# Altium schematic symbol library WE-KI HC.SchLib: 94 symbols (part 1 of 2)
Pins are listed as number, name and electrical type; pins without a type are passive.

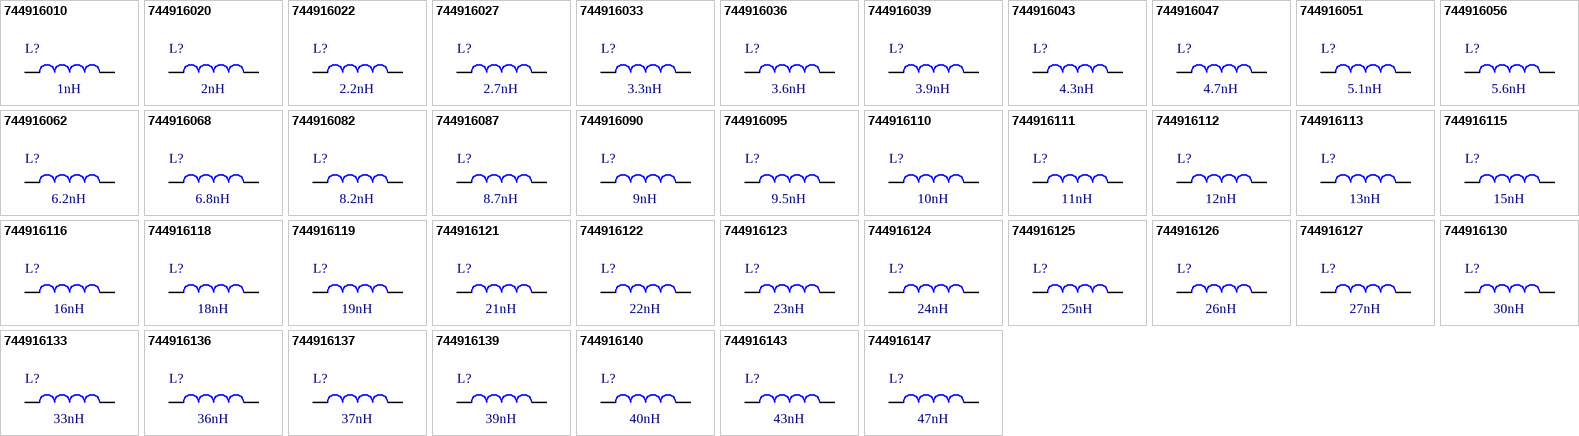
[diagram p0: symbols 744916010 to 744916147]

## 744916010
designator L?, comment 1nH
WE-KI HC SMT High Current Wire Wound Ceramic Inductor, size 0402, 1nH, 2.3A, 0.03Ω; Manufacturer Part Number: 744916010; Manufacturer: Wurth Elektronik; Case/Size Code: 0402; Inductance Tolerance: +/-0.2nH; Q Factor: 20; Self Resonant Frequency: 16000MHz; Category: RF Inductors; Match Code: WE-KI HC; ComponentLink1Description: Website Link; ComponentLink1URL: https://www.we-online.com/redexpert/article/744916010?ad; ComponentLink2Description: Datasheet Link; ComponentLink2URL: https://www.we-online.com/redexpert/spec/744916010?ad; Mount: Surface Mount; Min Operating Temperature: -40°C; Max Operating Temperature: 125°C; Packaging: Tape and Reel; Length: 1.1mm; Width: 0.6mm; Height: 0.6mm; DC Resistance Max: 0.03Ω; Inductance: 1nH; Rated Current: 2.3A
footprint WE-KI HC_0402
simulation model 0402_744916010_1n
pins: 1, 2

## 744916020
designator L?, comment 2nH
WE-KI HC SMT High Current Wire Wound Ceramic Inductor, size 0402, 2nH, 2.1A, 0.038Ω; Manufacturer Part Number: 744916020; Manufacturer: Wurth Elektronik; Case/Size Code: 0402; Inductance Tolerance: +/-0.2nH; Q Factor: 24; Self Resonant Frequency: 15200MHz; Category: RF Inductors; Match Code: WE-KI HC; ComponentLink1Description: Website Link; ComponentLink1URL: https://www.we-online.com/redexpert/article/744916020?ad; ComponentLink2Description: Datasheet Link; ComponentLink2URL: https://www.we-online.com/redexpert/spec/744916020?ad; Mount: Surface Mount; Min Operating Temperature: -40°C; Max Operating Temperature: 125°C; Packaging: Tape and Reel; Length: 1.1mm; Width: 0.6mm; Height: 0.6mm; DC Resistance Max: 0.038Ω; Inductance: 2nH; Rated Current: 2.1A
footprint WE-KI HC_0402
simulation model 0402_744916020_2n
pins: 1, 2

## 744916022
designator L?, comment 2.2nH
WE-KI HC SMT High Current Wire Wound Ceramic Inductor, size 0402, 2.2nH, 2.1A, 0.038Ω; Manufacturer Part Number: 744916022; Manufacturer: Wurth Elektronik; Case/Size Code: 0402; Inductance Tolerance: +/-0.2nH; Q Factor: 25; Self Resonant Frequency: 15100MHz; Category: RF Inductors; Match Code: WE-KI HC; ComponentLink1Description: Website Link; ComponentLink1URL: https://www.we-online.com/redexpert/article/744916022?ad; ComponentLink2Description: Datasheet Link; ComponentLink2URL: https://www.we-online.com/redexpert/spec/744916022?ad; Mount: Surface Mount; Min Operating Temperature: -40°C; Max Operating Temperature: 125°C; Packaging: Tape and Reel; Length: 1.1mm; Width: 0.6mm; Height: 0.6mm; DC Resistance Max: 0.038Ω; Inductance: 2.2nH; Rated Current: 2.1A
footprint WE-KI HC_0402
simulation model 0402_744916022_2.2n
pins: 1, 2

## 744916027
designator L?, comment 2.7nH
WE-KI HC SMT High Current Wire Wound Ceramic Inductor, size 0402, 2.7nH, 1.5A, 0.56Ω; Manufacturer Part Number: 744916027; Manufacturer: Wurth Elektronik; Case/Size Code: 0402; Inductance Tolerance: +/-0.2nH; Q Factor: 24; Self Resonant Frequency: 13000MHz; Category: RF Inductors; Match Code: WE-KI HC; ComponentLink1Description: Website Link; ComponentLink1URL: https://www.we-online.com/redexpert/article/744916027?ad; ComponentLink2Description: Datasheet Link; ComponentLink2URL: https://www.we-online.com/redexpert/spec/744916027?ad; Mount: Surface Mount; Min Operating Temperature: -40°C; Max Operating Temperature: 125°C; Packaging: Tape and Reel; Length: 1.1mm; Width: 0.6mm; Height: 0.6mm; DC Resistance Max: 0.56Ω; Inductance: 2.7nH; Rated Current: 1.5A
footprint WE-KI HC_0402
simulation model 0402_744916027_2.7n
pins: 1, 2

## 744916033
designator L?, comment 3.3nH
WE-KI HC SMT High Current Wire Wound Ceramic Inductor, size 0402, 3.3nH, 1.7A, 0.045Ω; Manufacturer Part Number: 744916033; Manufacturer: Wurth Elektronik; Case/Size Code: 0402; Inductance Tolerance: +/-0.2nH; Q Factor: 28; Self Resonant Frequency: 12800MHz; Category: RF Inductors; Match Code: WE-KI HC; ComponentLink1Description: Website Link; ComponentLink1URL: https://www.we-online.com/redexpert/article/744916033?ad; ComponentLink2Description: Datasheet Link; ComponentLink2URL: https://www.we-online.com/redexpert/spec/744916033?ad; Mount: Surface Mount; Min Operating Temperature: -40°C; Max Operating Temperature: 125°C; Packaging: Tape and Reel; Length: 1.1mm; Width: 0.6mm; Height: 0.6mm; DC Resistance Max: 0.045Ω; Inductance: 3.3nH; Rated Current: 1.7A
footprint WE-KI HC_0402
simulation model 0402_744916033_3.3n
pins: 1, 2

## 744916036
designator L?, comment 3.6nH
WE-KI HC SMT High Current Wire Wound Ceramic Inductor, size 0402, 3.6nH, 1.7A, 0.045Ω; Manufacturer Part Number: 744916036; Manufacturer: Wurth Elektronik; Case/Size Code: 0402; Inductance Tolerance: +/-0.2nH; Q Factor: 28; Self Resonant Frequency: 11700MHz; Category: RF Inductors; Match Code: WE-KI HC; ComponentLink1Description: Website Link; ComponentLink1URL: https://www.we-online.com/redexpert/article/744916036?ad; ComponentLink2Description: Datasheet Link; ComponentLink2URL: https://www.we-online.com/redexpert/spec/744916036?ad; Mount: Surface Mount; Min Operating Temperature: -40°C; Max Operating Temperature: 125°C; Packaging: Tape and Reel; Length: 1.1mm; Width: 0.6mm; Height: 0.6mm; DC Resistance Max: 0.045Ω; Inductance: 3.6nH; Rated Current: 1.7A
footprint WE-KI HC_0402
simulation model 0402_744916036_3.6n
pins: 1, 2

## 744916039
designator L?, comment 3.9nH
WE-KI HC SMT High Current Wire Wound Ceramic Inductor, size 0402, 3.9nH, 1.7A, 0.045Ω; Manufacturer Part Number: 744916039; Manufacturer: Wurth Elektronik; Case/Size Code: 0402; Inductance Tolerance: +/-0.2nH; Q Factor: 28; Self Resonant Frequency: 9500MHz; Category: RF Inductors; Match Code: WE-KI HC; ComponentLink1Description: Website Link; ComponentLink1URL: https://www.we-online.com/redexpert/article/744916039?ad; ComponentLink2Description: Datasheet Link; ComponentLink2URL: https://www.we-online.com/redexpert/spec/744916039?ad; Mount: Surface Mount; Min Operating Temperature: -40°C; Max Operating Temperature: 125°C; Packaging: Tape and Reel; Length: 1.1mm; Width: 0.6mm; Height: 0.6mm; DC Resistance Max: 0.045Ω; Inductance: 3.9nH; Rated Current: 1.7A
footprint WE-KI HC_0402
simulation model 0402_744916039_3.9n
pins: 1, 2

## 744916043
designator L?, comment 4.3nH
WE-KI HC SMT High Current Wire Wound Ceramic Inductor, size 0402, 4.3nH, 1.6A, 0.04Ω; Manufacturer Part Number: 744916043; Manufacturer: Wurth Elektronik; Case/Size Code: 0402; Inductance Tolerance: +/-0.2nH; Q Factor: 27; Self Resonant Frequency: 7150MHz; Category: RF Inductors; Match Code: WE-KI HC; ComponentLink1Description: Website Link; ComponentLink1URL: https://www.we-online.com/redexpert/article/744916043?ad; ComponentLink2Description: Datasheet Link; ComponentLink2URL: https://www.we-online.com/redexpert/spec/744916043?ad; Mount: Surface Mount; Min Operating Temperature: -40°C; Max Operating Temperature: 125°C; Packaging: Tape and Reel; Length: 1.1mm; Width: 0.6mm; Height: 0.6mm; DC Resistance Max: 0.04Ω; Inductance: 4.3nH; Rated Current: 1.6A
footprint WE-KI HC_0402
simulation model 0402_744916043_4.3n
pins: 1, 2

## 744916047
designator L?, comment 4.7nH
WE-KI HC SMT High Current Wire Wound Ceramic Inductor, size 0402, 4.7nH, 1.5A, 0.06Ω; Manufacturer Part Number: 744916047; Manufacturer: Wurth Elektronik; Case/Size Code: 0402; Inductance Tolerance: +/-0.2nH; Q Factor: 23; Self Resonant Frequency: 6850MHz; Category: RF Inductors; Match Code: WE-KI HC; ComponentLink1Description: Website Link; ComponentLink1URL: https://www.we-online.com/redexpert/article/744916047?ad; ComponentLink2Description: Datasheet Link; ComponentLink2URL: https://www.we-online.com/redexpert/spec/744916047?ad; Mount: Surface Mount; Min Operating Temperature: -40°C; Max Operating Temperature: 125°C; Packaging: Tape and Reel; Length: 1.1mm; Width: 0.6mm; Height: 0.6mm; DC Resistance Max: 0.06Ω; Inductance: 4.7nH; Rated Current: 1.5A
footprint WE-KI HC_0402
simulation model 0402_744916047_4.7n
pins: 1, 2

## 744916051
designator L?, comment 5.1nH
WE-KI HC SMT High Current Wire Wound Ceramic Inductor, size 0402, 5.1nH, 1.2A, 0.1Ω; Manufacturer Part Number: 744916051; Manufacturer: Wurth Elektronik; Case/Size Code: 0402; Inductance Tolerance: +/-0.2nH; Q Factor: 20; Self Resonant Frequency: 6800MHz; Category: RF Inductors; Match Code: WE-KI HC; ComponentLink1Description: Website Link; ComponentLink1URL: https://www.we-online.com/redexpert/article/744916051?ad; ComponentLink2Description: Datasheet Link; ComponentLink2URL: https://www.we-online.com/redexpert/spec/744916051?ad; Mount: Surface Mount; Min Operating Temperature: -40°C; Max Operating Temperature: 125°C; Packaging: Tape and Reel; Length: 1.1mm; Width: 0.6mm; Height: 0.6mm; DC Resistance Max: 0.1Ω; Inductance: 5.1nH; Rated Current: 1.2A
footprint WE-KI HC_0402
simulation model 0402_744916051_5.1n
pins: 1, 2

## 744916056
designator L?, comment 5.6nH
WE-KI HC SMT High Current Wire Wound Ceramic Inductor, size 0402, 5.6nH, 1.6A, 0.048Ω; Manufacturer Part Number: 744916056; Manufacturer: Wurth Elektronik; Case/Size Code: 0402; Inductance Tolerance: +/-0.2nH; Q Factor: 29; Self Resonant Frequency: 6500MHz; Category: RF Inductors; Match Code: WE-KI HC; ComponentLink1Description: Website Link; ComponentLink1URL: https://www.we-online.com/redexpert/article/744916056?ad; ComponentLink2Description: Datasheet Link; ComponentLink2URL: https://www.we-online.com/redexpert/spec/744916056?ad; Mount: Surface Mount; Min Operating Temperature: -40°C; Max Operating Temperature: 125°C; Packaging: Tape and Reel; Length: 1.1mm; Width: 0.6mm; Height: 0.6mm; DC Resistance Max: 0.048Ω; Inductance: 5.6nH; Rated Current: 1.6A
footprint WE-KI HC_0402
simulation model 0402_744916056_5.6n
pins: 1, 2

## 744916062
designator L?, comment 6.2nH
WE-KI HC SMT High Current Wire Wound Ceramic Inductor, size 0402, 6.2nH, 1.6A, 0.05Ω; Manufacturer Part Number: 744916062; Manufacturer: Wurth Elektronik; Case/Size Code: 0402; Inductance Tolerance: +/-0.2nH; Q Factor: 29; Self Resonant Frequency: 5800MHz; Category: RF Inductors; Match Code: WE-KI HC; ComponentLink1Description: Website Link; ComponentLink1URL: https://www.we-online.com/redexpert/article/744916062?ad; ComponentLink2Description: Datasheet Link; ComponentLink2URL: https://www.we-online.com/redexpert/spec/744916062?ad; Mount: Surface Mount; Min Operating Temperature: -40°C; Max Operating Temperature: 125°C; Packaging: Tape and Reel; Length: 1.1mm; Width: 0.6mm; Height: 0.6mm; DC Resistance Max: 0.05Ω; Inductance: 6.2nH; Rated Current: 1.6A
footprint WE-KI HC_0402
simulation model 0402_744916062_6.2n
pins: 1, 2

## 744916068
designator L?, comment 6.8nH
WE-KI HC SMT High Current Wire Wound Ceramic Inductor, size 0402, 6.8nH, 1.5A, 0.055Ω; Manufacturer Part Number: 744916068; Manufacturer: Wurth Elektronik; Case/Size Code: 0402; Inductance Tolerance: +/-2%; Q Factor: 28; Self Resonant Frequency: 5800MHz; Category: RF Inductors; Match Code: WE-KI HC; ComponentLink1Description: Website Link; ComponentLink1URL: https://www.we-online.com/redexpert/article/744916068?ad; ComponentLink2Description: Datasheet Link; ComponentLink2URL: https://www.we-online.com/redexpert/spec/744916068?ad; Mount: Surface Mount; Min Operating Temperature: -40°C; Max Operating Temperature: 125°C; Packaging: Tape and Reel; Length: 1.1mm; Width: 0.6mm; Height: 0.6mm; DC Resistance Max: 0.055Ω; Inductance: 6.8nH; Rated Current: 1.5A
footprint WE-KI HC_0402
simulation model 0402_744916068_6.8n
pins: 1, 2

## 744916082
designator L?, comment 8.2nH
WE-KI HC SMT High Current Wire Wound Ceramic Inductor, size 0402, 8.2nH, 1.5A, 0.058Ω; Manufacturer Part Number: 744916082; Manufacturer: Wurth Elektronik; Case/Size Code: 0402; Inductance Tolerance: +/-2%; Q Factor: 28; Self Resonant Frequency: 5400MHz; Category: RF Inductors; Match Code: WE-KI HC; ComponentLink1Description: Website Link; ComponentLink1URL: https://www.we-online.com/redexpert/article/744916082?ad; ComponentLink2Description: Datasheet Link; ComponentLink2URL: https://www.we-online.com/redexpert/spec/744916082?ad; Mount: Surface Mount; Min Operating Temperature: -40°C; Max Operating Temperature: 125°C; Packaging: Tape and Reel; Length: 1.1mm; Width: 0.6mm; Height: 0.6mm; DC Resistance Max: 0.058Ω; Inductance: 8.2nH; Rated Current: 1.5A
footprint WE-KI HC_0402
simulation model 0402_744916082_8.2n
pins: 1, 2

## 744916087
designator L?, comment 8.7nH
WE-KI HC SMT High Current Wire Wound Ceramic Inductor, size 0402, 8.7nH, 1.5A, 0.065Ω; Manufacturer Part Number: 744916087; Manufacturer: Wurth Elektronik; Case/Size Code: 0402; Inductance Tolerance: +/-2%; Q Factor: 29; Self Resonant Frequency: 5000MHz; Category: RF Inductors; Match Code: WE-KI HC; ComponentLink1Description: Website Link; ComponentLink1URL: https://www.we-online.com/redexpert/article/744916087?ad; ComponentLink2Description: Datasheet Link; ComponentLink2URL: https://www.we-online.com/redexpert/spec/744916087?ad; Mount: Surface Mount; Min Operating Temperature: -40°C; Max Operating Temperature: 125°C; Packaging: Tape and Reel; Length: 1.1mm; Width: 0.6mm; Height: 0.6mm; DC Resistance Max: 0.065Ω; Inductance: 8.7nH; Rated Current: 1.5A
footprint WE-KI HC_0402
simulation model 0402_744916087_8.7n
pins: 1, 2

## 744916090
designator L?, comment 9nH
WE-KI HC SMT High Current Wire Wound Ceramic Inductor, size 0402, 9nH, 1.4A, 0.073Ω; Manufacturer Part Number: 744916090; Manufacturer: Wurth Elektronik; Case/Size Code: 0402; Inductance Tolerance: +/-2%; Q Factor: 27; Self Resonant Frequency: 5000MHz; Category: RF Inductors; Match Code: WE-KI HC; ComponentLink1Description: Website Link; ComponentLink1URL: https://www.we-online.com/redexpert/article/744916090?ad; ComponentLink2Description: Datasheet Link; ComponentLink2URL: https://www.we-online.com/redexpert/spec/744916090?ad; Mount: Surface Mount; Min Operating Temperature: -40°C; Max Operating Temperature: 125°C; Packaging: Tape and Reel; Length: 1.1mm; Width: 0.6mm; Height: 0.6mm; DC Resistance Max: 0.073Ω; Inductance: 9nH; Rated Current: 1.4A
footprint WE-KI HC_0402
simulation model 0402_744916090_9n
pins: 1, 2

## 744916095
designator L?, comment 9.5nH
WE-KI HC SMT High Current Wire Wound Ceramic Inductor, size 0402, 9.5nH, 1.4A, 0.075Ω; Manufacturer Part Number: 744916095; Manufacturer: Wurth Elektronik; Case/Size Code: 0402; Inductance Tolerance: +/-2%; Q Factor: 28; Self Resonant Frequency: 4700MHz; Category: RF Inductors; Match Code: WE-KI HC; ComponentLink1Description: Website Link; ComponentLink1URL: https://www.we-online.com/redexpert/article/744916095?ad; ComponentLink2Description: Datasheet Link; ComponentLink2URL: https://www.we-online.com/redexpert/spec/744916095?ad; Mount: Surface Mount; Min Operating Temperature: -40°C; Max Operating Temperature: 125°C; Packaging: Tape and Reel; Length: 1.1mm; Width: 0.6mm; Height: 0.6mm; DC Resistance Max: 0.075Ω; Inductance: 9.5nH; Rated Current: 1.4A
footprint WE-KI HC_0402
simulation model 0402_744916095_9.5n
pins: 1, 2

## 744916110
designator L?, comment 10nH
WE-KI HC SMT High Current Wire Wound Ceramic Inductor, size 0402, 10nH, 1.3A, 0.085Ω; Manufacturer Part Number: 744916110; Manufacturer: Wurth Elektronik; Case/Size Code: 0402; Inductance Tolerance: +/-2%; Q Factor: 26; Self Resonant Frequency: 4700MHz; Category: RF Inductors; Match Code: WE-KI HC; ComponentLink1Description: Website Link; ComponentLink1URL: https://www.we-online.com/redexpert/article/744916110?ad; ComponentLink2Description: Datasheet Link; ComponentLink2URL: https://www.we-online.com/redexpert/spec/744916110?ad; Mount: Surface Mount; Min Operating Temperature: -40°C; Max Operating Temperature: 125°C; Packaging: Tape and Reel; Length: 1.1mm; Width: 0.6mm; Height: 0.6mm; DC Resistance Max: 0.085Ω; Inductance: 10nH; Rated Current: 1.3A
footprint WE-KI HC_0402
simulation model 0402_744916110_10n
pins: 1, 2

## 744916111
designator L?, comment 11nH
WE-KI HC SMT High Current Wire Wound Ceramic Inductor, size 0402, 11nH, 1.4A, 0.065Ω; Manufacturer Part Number: 744916111; Manufacturer: Wurth Elektronik; Case/Size Code: 0402; Inductance Tolerance: +/-2%; Q Factor: 29; Self Resonant Frequency: 4700MHz; Category: RF Inductors; Match Code: WE-KI HC; ComponentLink1Description: Website Link; ComponentLink1URL: https://www.we-online.com/redexpert/article/744916111?ad; ComponentLink2Description: Datasheet Link; ComponentLink2URL: https://www.we-online.com/redexpert/spec/744916111?ad; Mount: Surface Mount; Min Operating Temperature: -40°C; Max Operating Temperature: 125°C; Packaging: Tape and Reel; Length: 1.1mm; Width: 0.6mm; Height: 0.6mm; DC Resistance Max: 0.065Ω; Inductance: 11nH; Rated Current: 1.4A
footprint WE-KI HC_0402
simulation model 0402_744916111_11n
pins: 1, 2

## 744916112
designator L?, comment 12nH
WE-KI HC SMT High Current Wire Wound Ceramic Inductor, size 0402, 12nH, 1.2A, 0.07Ω; Manufacturer Part Number: 744916112; Manufacturer: Wurth Elektronik; Case/Size Code: 0402; Inductance Tolerance: +/-2%; Q Factor: 28; Self Resonant Frequency: 4400MHz; Category: RF Inductors; Match Code: WE-KI HC; ComponentLink1Description: Website Link; ComponentLink1URL: https://www.we-online.com/redexpert/article/744916112?ad; ComponentLink2Description: Datasheet Link; ComponentLink2URL: https://www.we-online.com/redexpert/spec/744916112?ad; Mount: Surface Mount; Min Operating Temperature: -40°C; Max Operating Temperature: 125°C; Packaging: Tape and Reel; Length: 1.1mm; Width: 0.6mm; Height: 0.6mm; DC Resistance Max: 0.07Ω; Inductance: 12nH; Rated Current: 1.2A
footprint WE-KI HC_0402
simulation model 0402_744916112_12n
pins: 1, 2

## 744916113
designator L?, comment 13nH
WE-KI HC SMT High Current Wire Wound Ceramic Inductor, size 0402, 13nH, 0.87A, 0.14Ω; Manufacturer Part Number: 744916113; Manufacturer: Wurth Elektronik; Case/Size Code: 0402; Inductance Tolerance: +/-2%; Q Factor: 27; Self Resonant Frequency: 4200MHz; Category: RF Inductors; Match Code: WE-KI HC; ComponentLink1Description: Website Link; ComponentLink1URL: https://www.we-online.com/redexpert/article/744916113?ad; ComponentLink2Description: Datasheet Link; ComponentLink2URL: https://www.we-online.com/redexpert/spec/744916113?ad; Mount: Surface Mount; Min Operating Temperature: -40°C; Max Operating Temperature: 125°C; Packaging: Tape and Reel; Length: 1.1mm; Width: 0.6mm; Height: 0.6mm; DC Resistance Max: 0.14Ω; Inductance: 13nH; Rated Current: 0.87A
footprint WE-KI HC_0402
simulation model 0402_744916113_13n
pins: 1, 2

## 744916115
designator L?, comment 15nH
WE-KI HC SMT High Current Wire Wound Ceramic Inductor, size 0402, 15nH, 1.1A, 0.13Ω; Manufacturer Part Number: 744916115; Manufacturer: Wurth Elektronik; Case/Size Code: 0402; Inductance Tolerance: +/-2%; Q Factor: 28; Self Resonant Frequency: 3900MHz; Category: RF Inductors; Match Code: WE-KI HC; ComponentLink1Description: Website Link; ComponentLink1URL: https://www.we-online.com/redexpert/article/744916115?ad; ComponentLink2Description: Datasheet Link; ComponentLink2URL: https://www.we-online.com/redexpert/spec/744916115?ad; Mount: Surface Mount; Min Operating Temperature: -40°C; Max Operating Temperature: 125°C; Packaging: Tape and Reel; Length: 1.1mm; Width: 0.6mm; Height: 0.6mm; DC Resistance Max: 0.13Ω; Inductance: 15nH; Rated Current: 1.1A
footprint WE-KI HC_0402
simulation model 0402_744916115_15n
pins: 1, 2

## 744916116
designator L?, comment 16nH
WE-KI HC SMT High Current Wire Wound Ceramic Inductor, size 0402, 16nH, 0.85A, 0.13Ω; Manufacturer Part Number: 744916116; Manufacturer: Wurth Elektronik; Case/Size Code: 0402; Inductance Tolerance: +/-2%; Q Factor: 27; Self Resonant Frequency: 3700MHz; Category: RF Inductors; Match Code: WE-KI HC; ComponentLink1Description: Website Link; ComponentLink1URL: https://www.we-online.com/redexpert/article/744916116?ad; ComponentLink2Description: Datasheet Link; ComponentLink2URL: https://www.we-online.com/redexpert/spec/744916116?ad; Mount: Surface Mount; Min Operating Temperature: -40°C; Max Operating Temperature: 125°C; Packaging: Tape and Reel; Length: 1.1mm; Width: 0.6mm; Height: 0.6mm; DC Resistance Max: 0.13Ω; Inductance: 16nH; Rated Current: 0.85A
footprint WE-KI HC_0402
simulation model 0402_744916116_16n
pins: 1, 2

## 744916118
designator L?, comment 18nH
WE-KI HC SMT High Current Wire Wound Ceramic Inductor, size 0402, 18nH, 0.9A, 0.12Ω; Manufacturer Part Number: 744916118; Manufacturer: Wurth Elektronik; Case/Size Code: 0402; Inductance Tolerance: +/-2%; Q Factor: 26; Self Resonant Frequency: 3550MHz; Category: RF Inductors; Match Code: WE-KI HC; ComponentLink1Description: Website Link; ComponentLink1URL: https://www.we-online.com/redexpert/article/744916118?ad; ComponentLink2Description: Datasheet Link; ComponentLink2URL: https://www.we-online.com/redexpert/spec/744916118?ad; Mount: Surface Mount; Min Operating Temperature: -40°C; Max Operating Temperature: 125°C; Packaging: Tape and Reel; Length: 1.1mm; Width: 0.6mm; Height: 0.6mm; DC Resistance Max: 0.12Ω; Inductance: 18nH; Rated Current: 0.9A
footprint WE-KI HC_0402
simulation model 0402_744916118_18n
pins: 1, 2

## 744916119
designator L?, comment 19nH
WE-KI HC SMT High Current Wire Wound Ceramic Inductor, size 0402, 19nH, 0.85A, 0.175Ω; Manufacturer Part Number: 744916119; Manufacturer: Wurth Elektronik; Case/Size Code: 0402; Inductance Tolerance: +/-2%; Q Factor: 26; Self Resonant Frequency: 3500MHz; Category: RF Inductors; Match Code: WE-KI HC; ComponentLink1Description: Website Link; ComponentLink1URL: https://www.we-online.com/redexpert/article/744916119?ad; ComponentLink2Description: Datasheet Link; ComponentLink2URL: https://www.we-online.com/redexpert/spec/744916119?ad; Mount: Surface Mount; Min Operating Temperature: -40°C; Max Operating Temperature: 125°C; Packaging: Tape and Reel; Length: 1.1mm; Width: 0.6mm; Height: 0.6mm; DC Resistance Max: 0.175Ω; Inductance: 19nH; Rated Current: 0.85A
footprint WE-KI HC_0402
simulation model 0402_744916119_19n
pins: 1, 2

## 744916121
designator L?, comment 21nH
WE-KI HC SMT High Current Wire Wound Ceramic Inductor, size 0402, 21nH, 0.45A, 0.46Ω; Manufacturer Part Number: 744916121; Manufacturer: Wurth Elektronik; Case/Size Code: 0402; Inductance Tolerance: +/-2%; Q Factor: 25; Self Resonant Frequency: 1700MHz; Category: RF Inductors; Match Code: WE-KI HC; ComponentLink1Description: Website Link; ComponentLink1URL: https://www.we-online.com/redexpert/article/744916121?ad; ComponentLink2Description: Datasheet Link; ComponentLink2URL: https://www.we-online.com/redexpert/spec/744916121?ad; Mount: Surface Mount; Min Operating Temperature: -40°C; Max Operating Temperature: 125°C; Packaging: Tape and Reel; Length: 1.1mm; Width: 0.6mm; Height: 0.6mm; DC Resistance Max: 0.46Ω; Inductance: 21nH; Rated Current: 0.45A
footprint WE-KI HC_0402
simulation model 0402_744916121_21n
pins: 1, 2

## 744916122
designator L?, comment 22nH
WE-KI HC SMT High Current Wire Wound Ceramic Inductor, size 0402, 22nH, 0.8A, 0.25Ω; Manufacturer Part Number: 744916122; Manufacturer: Wurth Elektronik; Case/Size Code: 0402; Inductance Tolerance: +/-2%; Q Factor: 28; Self Resonant Frequency: 3300MHz; Category: RF Inductors; Match Code: WE-KI HC; ComponentLink1Description: Website Link; ComponentLink1URL: https://www.we-online.com/redexpert/article/744916122?ad; ComponentLink2Description: Datasheet Link; ComponentLink2URL: https://www.we-online.com/redexpert/spec/744916122?ad; Mount: Surface Mount; Min Operating Temperature: -40°C; Max Operating Temperature: 125°C; Packaging: Tape and Reel; Length: 1.1mm; Width: 0.6mm; Height: 0.6mm; DC Resistance Max: 0.25Ω; Inductance: 22nH; Rated Current: 0.8A
footprint WE-KI HC_0402
simulation model 0402_744916122_22n
pins: 1, 2

## 744916123
designator L?, comment 23nH
WE-KI HC SMT High Current Wire Wound Ceramic Inductor, size 0402, 23nH, 0.8A, 0.16Ω; Manufacturer Part Number: 744916123; Manufacturer: Wurth Elektronik; Case/Size Code: 0402; Inductance Tolerance: +/-2%; Q Factor: 28; Self Resonant Frequency: 3300MHz; Category: RF Inductors; Match Code: WE-KI HC; ComponentLink1Description: Website Link; ComponentLink1URL: https://www.we-online.com/redexpert/article/744916123?ad; ComponentLink2Description: Datasheet Link; ComponentLink2URL: https://www.we-online.com/redexpert/spec/744916123?ad; Mount: Surface Mount; Min Operating Temperature: -40°C; Max Operating Temperature: 125°C; Packaging: Tape and Reel; Length: 1.1mm; Width: 0.6mm; Height: 0.6mm; DC Resistance Max: 0.16Ω; Inductance: 23nH; Rated Current: 0.8A
footprint WE-KI HC_0402
simulation model 0402_744916123_23n
pins: 1, 2

## 744916124
designator L?, comment 24nH
WE-KI HC SMT High Current Wire Wound Ceramic Inductor, size 0402, 24nH, 0.7A, 0.29Ω; Manufacturer Part Number: 744916124; Manufacturer: Wurth Elektronik; Case/Size Code: 0402; Inductance Tolerance: +/-2%; Q Factor: 27; Self Resonant Frequency: 3150MHz; Category: RF Inductors; Match Code: WE-KI HC; ComponentLink1Description: Website Link; ComponentLink1URL: https://www.we-online.com/redexpert/article/744916124?ad; ComponentLink2Description: Datasheet Link; ComponentLink2URL: https://www.we-online.com/redexpert/spec/744916124?ad; Mount: Surface Mount; Min Operating Temperature: -40°C; Max Operating Temperature: 125°C; Packaging: Tape and Reel; Length: 1.1mm; Width: 0.6mm; Height: 0.6mm; DC Resistance Max: 0.29Ω; Inductance: 24nH; Rated Current: 0.7A
footprint WE-KI HC_0402
simulation model 0402_744916124_24n
pins: 1, 2

## 744916125
designator L?, comment 25nH
WE-KI HC SMT High Current Wire Wound Ceramic Inductor, size 0402, 25nH, 0.7A, 0.3Ω; Manufacturer Part Number: 744916125; Manufacturer: Wurth Elektronik; Case/Size Code: 0402; Inductance Tolerance: +/-2%; Q Factor: 26; Self Resonant Frequency: 3150MHz; Category: RF Inductors; Match Code: WE-KI HC; ComponentLink1Description: Website Link; ComponentLink1URL: https://www.we-online.com/redexpert/article/744916125?ad; ComponentLink2Description: Datasheet Link; ComponentLink2URL: https://www.we-online.com/redexpert/spec/744916125?ad; Mount: Surface Mount; Min Operating Temperature: -40°C; Max Operating Temperature: 125°C; Packaging: Tape and Reel; Length: 1.1mm; Width: 0.6mm; Height: 0.6mm; DC Resistance Max: 0.3Ω; Inductance: 25nH; Rated Current: 0.7A
footprint WE-KI HC_0402
simulation model 0402_744916125_25n
pins: 1, 2

## 744916126
designator L?, comment 26nH
WE-KI HC SMT High Current Wire Wound Ceramic Inductor, size 0402, 26nH, 0.7A, 0.275Ω; Manufacturer Part Number: 744916126; Manufacturer: Wurth Elektronik; Case/Size Code: 0402; Inductance Tolerance: +/-2%; Q Factor: 27; Self Resonant Frequency: 3150MHz; Category: RF Inductors; Match Code: WE-KI HC; ComponentLink1Description: Website Link; ComponentLink1URL: https://www.we-online.com/redexpert/article/744916126?ad; ComponentLink2Description: Datasheet Link; ComponentLink2URL: https://www.we-online.com/redexpert/spec/744916126?ad; Mount: Surface Mount; Min Operating Temperature: -40°C; Max Operating Temperature: 125°C; Packaging: Tape and Reel; Length: 1.1mm; Width: 0.6mm; Height: 0.6mm; DC Resistance Max: 0.275Ω; Inductance: 26nH; Rated Current: 0.7A
footprint WE-KI HC_0402
simulation model 0402_744916126_26n
pins: 1, 2

## 744916127
designator L?, comment 27nH
WE-KI HC SMT High Current Wire Wound Ceramic Inductor, size 0402, 27nH, 0.45A, 0.33Ω; Manufacturer Part Number: 744916127; Manufacturer: Wurth Elektronik; Case/Size Code: 0402; Inductance Tolerance: +/-2%; Q Factor: 27; Self Resonant Frequency: 3200MHz; Category: RF Inductors; Match Code: WE-KI HC; ComponentLink1Description: Website Link; ComponentLink1URL: https://www.we-online.com/redexpert/article/744916127?ad; ComponentLink2Description: Datasheet Link; ComponentLink2URL: https://www.we-online.com/redexpert/spec/744916127?ad; Mount: Surface Mount; Min Operating Temperature: -40°C; Max Operating Temperature: 125°C; Packaging: Tape and Reel; Length: 1.1mm; Width: 0.6mm; Height: 0.6mm; DC Resistance Max: 0.33Ω; Inductance: 27nH; Rated Current: 0.45A
footprint WE-KI HC_0402
simulation model 0402_744916127_27n
pins: 1, 2

## 744916130
designator L?, comment 30nH
WE-KI HC SMT High Current Wire Wound Ceramic Inductor, size 0402, 30nH, 0.45A, 0.4Ω; Manufacturer Part Number: 744916130; Manufacturer: Wurth Elektronik; Case/Size Code: 0402; Inductance Tolerance: +/-2%; Q Factor: 25; Self Resonant Frequency: 2900MHz; Category: RF Inductors; Match Code: WE-KI HC; ComponentLink1Description: Website Link; ComponentLink1URL: https://www.we-online.com/redexpert/article/744916130?ad; ComponentLink2Description: Datasheet Link; ComponentLink2URL: https://www.we-online.com/redexpert/spec/744916130?ad; Mount: Surface Mount; Min Operating Temperature: -40°C; Max Operating Temperature: 125°C; Packaging: Tape and Reel; Length: 1.1mm; Width: 0.6mm; Height: 0.6mm; DC Resistance Max: 0.4Ω; Inductance: 30nH; Rated Current: 0.45A
footprint WE-KI HC_0402
simulation model 0402_744916130_30n
pins: 1, 2

## 744916133
designator L?, comment 33nH
WE-KI HC SMT High Current Wire Wound Ceramic Inductor, size 0402, 33nH, 0.49A, 0.33Ω; Manufacturer Part Number: 744916133; Manufacturer: Wurth Elektronik; Case/Size Code: 0402; Inductance Tolerance: +/-2%; Q Factor: 28; Self Resonant Frequency: 2800MHz; Category: RF Inductors; Match Code: WE-KI HC; ComponentLink1Description: Website Link; ComponentLink1URL: https://www.we-online.com/redexpert/article/744916133?ad; ComponentLink2Description: Datasheet Link; ComponentLink2URL: https://www.we-online.com/redexpert/spec/744916133?ad; Mount: Surface Mount; Min Operating Temperature: -40°C; Max Operating Temperature: 125°C; Packaging: Tape and Reel; Length: 1.1mm; Width: 0.6mm; Height: 0.6mm; DC Resistance Max: 0.33Ω; Inductance: 33nH; Rated Current: 0.49A
footprint WE-KI HC_0402
simulation model 0402_744916133_33n
pins: 1, 2

## 744916136
designator L?, comment 36nH
WE-KI HC SMT High Current Wire Wound Ceramic Inductor, size 0402, 36nH, 0.48A, 0.36Ω; Manufacturer Part Number: 744916136; Manufacturer: Wurth Elektronik; Case/Size Code: 0402; Inductance Tolerance: +/-2%; Q Factor: 26; Self Resonant Frequency: 2800MHz; Category: RF Inductors; Match Code: WE-KI HC; ComponentLink1Description: Website Link; ComponentLink1URL: https://www.we-online.com/redexpert/article/744916136?ad; ComponentLink2Description: Datasheet Link; ComponentLink2URL: https://www.we-online.com/redexpert/spec/744916136?ad; Mount: Surface Mount; Min Operating Temperature: -40°C; Max Operating Temperature: 125°C; Packaging: Tape and Reel; Length: 1.1mm; Width: 0.6mm; Height: 0.6mm; DC Resistance Max: 0.36Ω; Inductance: 36nH; Rated Current: 0.48A
footprint WE-KI HC_0402
simulation model 0402_744916136_36n
pins: 1, 2

## 744916137
designator L?, comment 37nH
WE-KI HC SMT High Current Wire Wound Ceramic Inductor, size 0402, 37nH, 0.47A, 0.48Ω; Manufacturer Part Number: 744916137; Manufacturer: Wurth Elektronik; Case/Size Code: 0402; Inductance Tolerance: +/-2%; Q Factor: 26; Self Resonant Frequency: 2700MHz; Category: RF Inductors; Match Code: WE-KI HC; ComponentLink1Description: Website Link; ComponentLink1URL: https://www.we-online.com/redexpert/article/744916137?ad; ComponentLink2Description: Datasheet Link; ComponentLink2URL: https://www.we-online.com/redexpert/spec/744916137?ad; Mount: Surface Mount; Min Operating Temperature: -40°C; Max Operating Temperature: 125°C; Packaging: Tape and Reel; Length: 1.1mm; Width: 0.6mm; Height: 0.6mm; DC Resistance Max: 0.48Ω; Inductance: 37nH; Rated Current: 0.47A
footprint WE-KI HC_0402
simulation model 0402_744916137_37n
pins: 1, 2

## 744916139
designator L?, comment 39nH
WE-KI HC SMT High Current Wire Wound Ceramic Inductor, size 0402, 39nH, 0.45A, 0.43Ω; Manufacturer Part Number: 744916139; Manufacturer: Wurth Elektronik; Case/Size Code: 0402; Inductance Tolerance: +/-2%; Q Factor: 28; Self Resonant Frequency: 2600MHz; Category: RF Inductors; Match Code: WE-KI HC; ComponentLink1Description: Website Link; ComponentLink1URL: https://www.we-online.com/redexpert/article/744916139?ad; ComponentLink2Description: Datasheet Link; ComponentLink2URL: https://www.we-online.com/redexpert/spec/744916139?ad; Mount: Surface Mount; Min Operating Temperature: -40°C; Max Operating Temperature: 125°C; Packaging: Tape and Reel; Length: 1.1mm; Width: 0.6mm; Height: 0.6mm; DC Resistance Max: 0.43Ω; Inductance: 39nH; Rated Current: 0.45A
footprint WE-KI HC_0402
simulation model 0402_744916139_39n
pins: 1, 2

## 744916140
designator L?, comment 40nH
WE-KI HC SMT High Current Wire Wound Ceramic Inductor, size 0402, 40nH, 0.45A, 0.52Ω; Manufacturer Part Number: 744916140; Manufacturer: Wurth Elektronik; Case/Size Code: 0402; Inductance Tolerance: +/-2%; Q Factor: 28; Self Resonant Frequency: 2600MHz; Category: RF Inductors; Match Code: WE-KI HC; ComponentLink1Description: Website Link; ComponentLink1URL: https://www.we-online.com/redexpert/article/744916140?ad; ComponentLink2Description: Datasheet Link; ComponentLink2URL: https://www.we-online.com/redexpert/spec/744916140?ad; Mount: Surface Mount; Min Operating Temperature: -40°C; Max Operating Temperature: 125°C; Packaging: Tape and Reel; Length: 1.1mm; Width: 0.6mm; Height: 0.6mm; DC Resistance Max: 0.52Ω; Inductance: 40nH; Rated Current: 0.45A
footprint WE-KI HC_0402
simulation model 0402_744916140_40n
pins: 1, 2

## 744916143
designator L?, comment 43nH
WE-KI HC SMT High Current Wire Wound Ceramic Inductor, size 0402, 43nH, 0.45A, 0.52Ω; Manufacturer Part Number: 744916143; Manufacturer: Wurth Elektronik; Case/Size Code: 0402; Inductance Tolerance: +/-2%; Q Factor: 26; Self Resonant Frequency: 2500MHz; Category: RF Inductors; Match Code: WE-KI HC; ComponentLink1Description: Website Link; ComponentLink1URL: https://www.we-online.com/redexpert/article/744916143?ad; ComponentLink2Description: Datasheet Link; ComponentLink2URL: https://www.we-online.com/redexpert/spec/744916143?ad; Mount: Surface Mount; Min Operating Temperature: -40°C; Max Operating Temperature: 125°C; Packaging: Tape and Reel; Length: 1.1mm; Width: 0.6mm; Height: 0.6mm; DC Resistance Max: 0.52Ω; Inductance: 43nH; Rated Current: 0.45A
footprint WE-KI HC_0402
simulation model 0402_744916143_43n
pins: 1, 2

## 744916147
designator L?, comment 47nH
WE-KI HC SMT High Current Wire Wound Ceramic Inductor, size 0402, 47nH, 0.42A, 0.58Ω; Manufacturer Part Number: 744916147; Manufacturer: Wurth Elektronik; Case/Size Code: 0402; Inductance Tolerance: +/-2%; Q Factor: 28; Self Resonant Frequency: 2400MHz; Category: RF Inductors; Match Code: WE-KI HC; ComponentLink1Description: Website Link; ComponentLink1URL: https://www.we-online.com/redexpert/article/744916147?ad; ComponentLink2Description: Datasheet Link; ComponentLink2URL: https://www.we-online.com/redexpert/spec/744916147?ad; Mount: Surface Mount; Min Operating Temperature: -40°C; Max Operating Temperature: 125°C; Packaging: Tape and Reel; Length: 1.1mm; Width: 0.6mm; Height: 0.6mm; DC Resistance Max: 0.58Ω; Inductance: 47nH; Rated Current: 0.42A
footprint WE-KI HC_0402
simulation model 0402_744916147_47n
pins: 1, 2

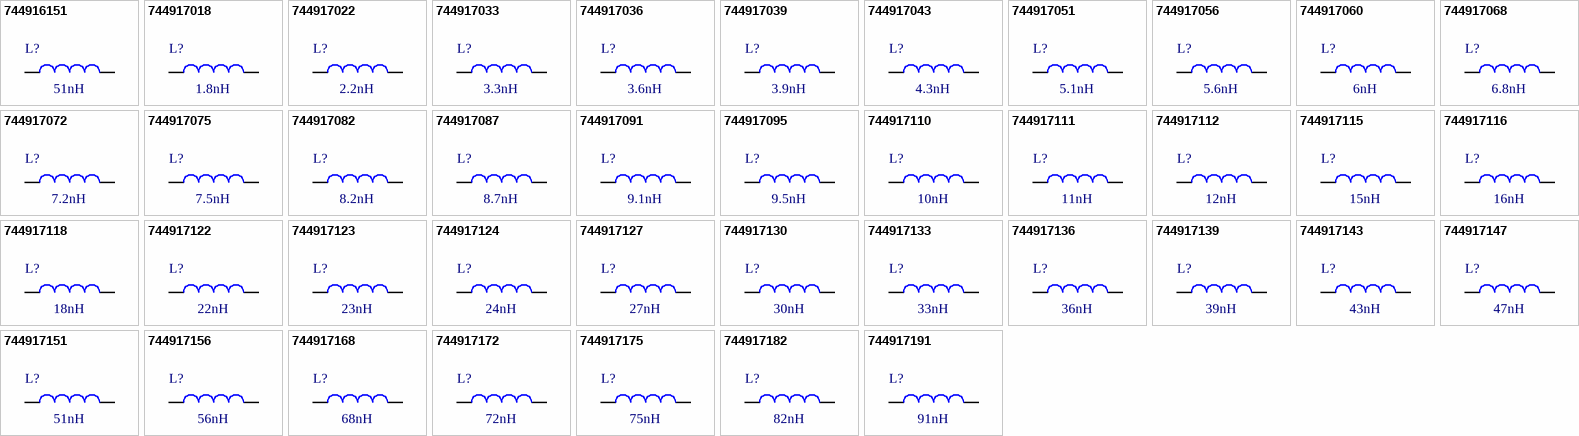
[diagram p1: symbols 744916151 to 744917191]

## 744916151
designator L?, comment 51nH
WE-KI HC SMT High Current Wire Wound Ceramic Inductor, size 0402, 51nH, 0.36A, 0.7Ω; Manufacturer Part Number: 744916151; Manufacturer: Wurth Elektronik; Case/Size Code: 0402; Inductance Tolerance: +/-2%; Q Factor: 26; Self Resonant Frequency: 2300MHz; Category: RF Inductors; Match Code: WE-KI HC; ComponentLink1Description: Website Link; ComponentLink1URL: https://www.we-online.com/redexpert/article/744916151?ad; ComponentLink2Description: Datasheet Link; ComponentLink2URL: https://www.we-online.com/redexpert/spec/744916151?ad; Mount: Surface Mount; Min Operating Temperature: -40°C; Max Operating Temperature: 125°C; Packaging: Tape and Reel; Length: 1.1mm; Width: 0.6mm; Height: 0.6mm; DC Resistance Max: 0.7Ω; Inductance: 51nH; Rated Current: 0.36A
footprint WE-KI HC_0402
simulation model 0402_744916151_51n
pins: 1, 2

## 744917018
designator L?, comment 1.8nH
WE-KI HC SMT High Current Wire Wound Ceramic Inductor, size 0603, 1.8nH, 2.1A, 0.033Ω; Manufacturer Part Number: 744917018; Manufacturer: Wurth Elektronik; Case/Size Code: 0603; Inductance Tolerance: +/-0.2nH; Q Factor: 18; Self Resonant Frequency: 16000MHz; Category: RF Inductors; Match Code: WE-KI HC; ComponentLink1Description: Website Link; ComponentLink1URL: https://www.we-online.com/redexpert/article/744917018?ad; ComponentLink2Description: Datasheet Link; ComponentLink2URL: https://www.we-online.com/redexpert/spec/744917018?ad; Mount: Surface Mount; Min Operating Temperature: -40°C; Max Operating Temperature: 125°C; Packaging: Tape and Reel; Length: 1.6mm; Width: 1mm; Height: 0.8mm; DC Resistance Max: 0.033Ω; Inductance: 1.8nH; Rated Current: 2.1A
footprint WE-KI HC_0603
simulation model 0603_744917018_1.8n
pins: 1, 2

## 744917022
designator L?, comment 2.2nH
WE-KI HC SMT High Current Wire Wound Ceramic Inductor, size 0603, 2.2nH, 0.9A, 0.23Ω; Manufacturer Part Number: 744917022; Manufacturer: Wurth Elektronik; Case/Size Code: 0603; Inductance Tolerance: +/-0.2nH; Q Factor: 10; Self Resonant Frequency: 15000MHz; Category: RF Inductors; Match Code: WE-KI HC; ComponentLink1Description: Website Link; ComponentLink1URL: https://www.we-online.com/redexpert/article/744917022?ad; ComponentLink2Description: Datasheet Link; ComponentLink2URL: https://www.we-online.com/redexpert/spec/744917022?ad; Mount: Surface Mount; Min Operating Temperature: -40°C; Max Operating Temperature: 125°C; Packaging: Tape and Reel; Length: 1.6mm; Width: 1mm; Height: 0.8mm; DC Resistance Max: 0.23Ω; Inductance: 2.2nH; Rated Current: 0.9A
footprint WE-KI HC_0603
simulation model 0603_744917022_2.2n
pins: 1, 2

## 744917033
designator L?, comment 3.3nH
WE-KI HC SMT High Current Wire Wound Ceramic Inductor, size 0603, 3.3nH, 1.9A, 0.024Ω; Manufacturer Part Number: 744917033; Manufacturer: Wurth Elektronik; Case/Size Code: 0603; Inductance Tolerance: +/-0.2nH; Q Factor: 26; Self Resonant Frequency: 9600MHz; Category: RF Inductors; Match Code: WE-KI HC; ComponentLink1Description: Website Link; ComponentLink1URL: https://www.we-online.com/redexpert/article/744917033?ad; ComponentLink2Description: Datasheet Link; ComponentLink2URL: https://www.we-online.com/redexpert/spec/744917033?ad; Mount: Surface Mount; Min Operating Temperature: -40°C; Max Operating Temperature: 125°C; Packaging: Tape and Reel; Length: 1.6mm; Width: 1mm; Height: 0.8mm; DC Resistance Max: 0.024Ω; Inductance: 3.3nH; Rated Current: 1.9A
footprint WE-KI HC_0603
simulation model 0603_744917033_3.3n
pins: 1, 2

## 744917036
designator L?, comment 3.6nH
WE-KI HC SMT High Current Wire Wound Ceramic Inductor, size 0603, 3.6nH, 1.9A, 0.031Ω; Manufacturer Part Number: 744917036; Manufacturer: Wurth Elektronik; Case/Size Code: 0603; Inductance Tolerance: +/-0.2nH; Q Factor: 32; Self Resonant Frequency: 9700MHz; Category: RF Inductors; Match Code: WE-KI HC; ComponentLink1Description: Website Link; ComponentLink1URL: https://www.we-online.com/redexpert/article/744917036?ad; ComponentLink2Description: Datasheet Link; ComponentLink2URL: https://www.we-online.com/redexpert/spec/744917036?ad; Mount: Surface Mount; Min Operating Temperature: -40°C; Max Operating Temperature: 125°C; Packaging: Tape and Reel; Length: 1.6mm; Width: 1mm; Height: 0.8mm; DC Resistance Max: 0.031Ω; Inductance: 3.6nH; Rated Current: 1.9A
footprint WE-KI HC_0603
simulation model 0603_744917036_3.6n
pins: 1, 2

## 744917039
designator L?, comment 3.9nH
WE-KI HC SMT High Current Wire Wound Ceramic Inductor, size 0603, 3.9nH, 1.6A, 0.039Ω; Manufacturer Part Number: 744917039; Manufacturer: Wurth Elektronik; Case/Size Code: 0603; Inductance Tolerance: +/-0.2nH; Q Factor: 28; Self Resonant Frequency: 7500MHz; Category: RF Inductors; Match Code: WE-KI HC; ComponentLink1Description: Website Link; ComponentLink1URL: https://www.we-online.com/redexpert/article/744917039?ad; ComponentLink2Description: Datasheet Link; ComponentLink2URL: https://www.we-online.com/redexpert/spec/744917039?ad; Mount: Surface Mount; Min Operating Temperature: -40°C; Max Operating Temperature: 125°C; Packaging: Tape and Reel; Length: 1.6mm; Width: 1mm; Height: 0.8mm; DC Resistance Max: 0.039Ω; Inductance: 3.9nH; Rated Current: 1.6A
footprint WE-KI HC_0603
simulation model 0603_744917039_3.9n
pins: 1, 2

## 744917043
designator L?, comment 4.3nH
WE-KI HC SMT High Current Wire Wound Ceramic Inductor, size 0603, 4.3nH, 1.3A, 0.08Ω; Manufacturer Part Number: 744917043; Manufacturer: Wurth Elektronik; Case/Size Code: 0603; Inductance Tolerance: +/-0.2nH; Q Factor: 24; Self Resonant Frequency: 7500MHz; Category: RF Inductors; Match Code: WE-KI HC; ComponentLink1Description: Website Link; ComponentLink1URL: https://www.we-online.com/redexpert/article/744917043?ad; ComponentLink2Description: Datasheet Link; ComponentLink2URL: https://www.we-online.com/redexpert/spec/744917043?ad; Mount: Surface Mount; Min Operating Temperature: -40°C; Max Operating Temperature: 125°C; Packaging: Tape and Reel; Length: 1.6mm; Width: 1mm; Height: 0.8mm; DC Resistance Max: 0.08Ω; Inductance: 4.3nH; Rated Current: 1.3A
footprint WE-KI HC_0603
simulation model 0603_744917043_4.3n
pins: 1, 2

## 744917051
designator L?, comment 5.1nH
WE-KI HC SMT High Current Wire Wound Ceramic Inductor, size 0603, 5.1nH, 1.7A, 0.036Ω; Manufacturer Part Number: 744917051; Manufacturer: Wurth Elektronik; Case/Size Code: 0603; Inductance Tolerance: +/-0.2nH; Q Factor: 32; Self Resonant Frequency: 8900MHz; Category: RF Inductors; Match Code: WE-KI HC; ComponentLink1Description: Website Link; ComponentLink1URL: https://www.we-online.com/redexpert/article/744917051?ad; ComponentLink2Description: Datasheet Link; ComponentLink2URL: https://www.we-online.com/redexpert/spec/744917051?ad; Mount: Surface Mount; Min Operating Temperature: -40°C; Max Operating Temperature: 125°C; Packaging: Tape and Reel; Length: 1.6mm; Width: 1mm; Height: 0.8mm; DC Resistance Max: 0.036Ω; Inductance: 5.1nH; Rated Current: 1.7A
footprint WE-KI HC_0603
simulation model 0603_744917051_5.1n
pins: 1, 2

## 744917056
designator L?, comment 5.6nH
WE-KI HC SMT High Current Wire Wound Ceramic Inductor, size 0603, 5.6nH, 1.7A, 0.036Ω; Manufacturer Part Number: 744917056; Manufacturer: Wurth Elektronik; Case/Size Code: 0603; Inductance Tolerance: +/-0.2nH; Q Factor: 38; Self Resonant Frequency: 6600MHz; Category: RF Inductors; Match Code: WE-KI HC; ComponentLink1Description: Website Link; ComponentLink1URL: https://www.we-online.com/redexpert/article/744917056?ad; ComponentLink2Description: Datasheet Link; ComponentLink2URL: https://www.we-online.com/redexpert/spec/744917056?ad; Mount: Surface Mount; Min Operating Temperature: -40°C; Max Operating Temperature: 125°C; Packaging: Tape and Reel; Length: 1.6mm; Width: 1mm; Height: 0.8mm; DC Resistance Max: 0.036Ω; Inductance: 5.6nH; Rated Current: 1.7A
footprint WE-KI HC_0603
simulation model 0603_744917056_5.6n
pins: 1, 2

## 744917060
designator L?, comment 6nH
WE-KI HC SMT High Current Wire Wound Ceramic Inductor, size 0603, 6nH, 1.7A, 0.036Ω; Manufacturer Part Number: 744917060; Manufacturer: Wurth Elektronik; Case/Size Code: 0603; Inductance Tolerance: +/-0.2nH; Q Factor: 39; Self Resonant Frequency: 6000MHz; Category: RF Inductors; Match Code: WE-KI HC; ComponentLink1Description: Website Link; ComponentLink1URL: https://www.we-online.com/redexpert/article/744917060?ad; ComponentLink2Description: Datasheet Link; ComponentLink2URL: https://www.we-online.com/redexpert/spec/744917060?ad; Mount: Surface Mount; Min Operating Temperature: -40°C; Max Operating Temperature: 125°C; Packaging: Tape and Reel; Length: 1.6mm; Width: 1mm; Height: 0.8mm; DC Resistance Max: 0.036Ω; Inductance: 6nH; Rated Current: 1.7A
footprint WE-KI HC_0603
simulation model 0603_744917060_6n
pins: 1, 2

## 744917068
designator L?, comment 6.8nH
WE-KI HC SMT High Current Wire Wound Ceramic Inductor, size 0603, 6.8nH, 1.4A, 0.042Ω; Manufacturer Part Number: 744917068; Manufacturer: Wurth Elektronik; Case/Size Code: 0603; Inductance Tolerance: +/-2%; Q Factor: 34; Self Resonant Frequency: 5800MHz; Category: RF Inductors; Match Code: WE-KI HC; ComponentLink1Description: Website Link; ComponentLink1URL: https://www.we-online.com/redexpert/article/744917068?ad; ComponentLink2Description: Datasheet Link; ComponentLink2URL: https://www.we-online.com/redexpert/spec/744917068?ad; Mount: Surface Mount; Min Operating Temperature: -40°C; Max Operating Temperature: 125°C; Packaging: Tape and Reel; Length: 1.6mm; Width: 1mm; Height: 0.8mm; DC Resistance Max: 0.042Ω; Inductance: 6.8nH; Rated Current: 1.4A
footprint WE-KI HC_0603
simulation model 0603_744917068_6.8n
pins: 1, 2

## 744917072
designator L?, comment 7.2nH
WE-KI HC SMT High Current Wire Wound Ceramic Inductor, size 0603, 7.2nH, 1.4A, 0.07Ω; Manufacturer Part Number: 744917072; Manufacturer: Wurth Elektronik; Case/Size Code: 0603; Inductance Tolerance: +/-2%; Q Factor: 38; Self Resonant Frequency: 5400MHz; Category: RF Inductors; Match Code: WE-KI HC; ComponentLink1Description: Website Link; ComponentLink1URL: https://www.we-online.com/redexpert/article/744917072?ad; ComponentLink2Description: Datasheet Link; ComponentLink2URL: https://www.we-online.com/redexpert/spec/744917072?ad; Mount: Surface Mount; Min Operating Temperature: -40°C; Max Operating Temperature: 125°C; Packaging: Tape and Reel; Length: 1.6mm; Width: 1mm; Height: 0.8mm; DC Resistance Max: 0.07Ω; Inductance: 7.2nH; Rated Current: 1.4A
footprint WE-KI HC_0603
simulation model 0603_744917072_7.2n
pins: 1, 2

## 744917075
designator L?, comment 7.5nH
WE-KI HC SMT High Current Wire Wound Ceramic Inductor, size 0603, 7.5nH, 1.3A, 0.08Ω; Manufacturer Part Number: 744917075; Manufacturer: Wurth Elektronik; Case/Size Code: 0603; Inductance Tolerance: +/-2%; Q Factor: 33; Self Resonant Frequency: 5300MHz; Category: RF Inductors; Match Code: WE-KI HC; ComponentLink1Description: Website Link; ComponentLink1URL: https://www.we-online.com/redexpert/article/744917075?ad; ComponentLink2Description: Datasheet Link; ComponentLink2URL: https://www.we-online.com/redexpert/spec/744917075?ad; Mount: Surface Mount; Min Operating Temperature: -40°C; Max Operating Temperature: 125°C; Packaging: Tape and Reel; Length: 1.6mm; Width: 1mm; Height: 0.8mm; DC Resistance Max: 0.08Ω; Inductance: 7.5nH; Rated Current: 1.3A
footprint WE-KI HC_0603
simulation model 0603_744917075_7.5n
pins: 1, 2

## 744917082
designator L?, comment 8.2nH
WE-KI HC SMT High Current Wire Wound Ceramic Inductor, size 0603, 8.2nH, 1.4A, 0.054Ω; Manufacturer Part Number: 744917082; Manufacturer: Wurth Elektronik; Case/Size Code: 0603; Inductance Tolerance: +/-2%; Q Factor: 37; Self Resonant Frequency: 5900MHz; Category: RF Inductors; Match Code: WE-KI HC; ComponentLink1Description: Website Link; ComponentLink1URL: https://www.we-online.com/redexpert/article/744917082?ad; ComponentLink2Description: Datasheet Link; ComponentLink2URL: https://www.we-online.com/redexpert/spec/744917082?ad; Mount: Surface Mount; Min Operating Temperature: -40°C; Max Operating Temperature: 125°C; Packaging: Tape and Reel; Length: 1.6mm; Width: 1mm; Height: 0.8mm; DC Resistance Max: 0.054Ω; Inductance: 8.2nH; Rated Current: 1.4A
footprint WE-KI HC_0603
simulation model 0603_744917082_8.2n
pins: 1, 2

## 744917087
designator L?, comment 8.7nH
WE-KI HC SMT High Current Wire Wound Ceramic Inductor, size 0603, 8.7nH, 1.4A, 0.054Ω; Manufacturer Part Number: 744917087; Manufacturer: Wurth Elektronik; Case/Size Code: 0603; Inductance Tolerance: +/-2%; Q Factor: 46; Self Resonant Frequency: 5500MHz; Category: RF Inductors; Match Code: WE-KI HC; ComponentLink1Description: Website Link; ComponentLink1URL: https://www.we-online.com/redexpert/article/744917087?ad; ComponentLink2Description: Datasheet Link; ComponentLink2URL: https://www.we-online.com/redexpert/spec/744917087?ad; Mount: Surface Mount; Min Operating Temperature: -40°C; Max Operating Temperature: 125°C; Packaging: Tape and Reel; Length: 1.6mm; Width: 1mm; Height: 0.8mm; DC Resistance Max: 0.054Ω; Inductance: 8.7nH; Rated Current: 1.4A
footprint WE-KI HC_0603
simulation model 0603_744917087_8.7n
pins: 1, 2

## 744917091
designator L?, comment 9.1nH
WE-KI HC SMT High Current Wire Wound Ceramic Inductor, size 0603, 9.1nH, 1.4A, 0.058Ω; Manufacturer Part Number: 744917091; Manufacturer: Wurth Elektronik; Case/Size Code: 0603; Inductance Tolerance: +/-2%; Q Factor: 32; Self Resonant Frequency: 5100MHz; Category: RF Inductors; Match Code: WE-KI HC; ComponentLink1Description: Website Link; ComponentLink1URL: https://www.we-online.com/redexpert/article/744917091?ad; ComponentLink2Description: Datasheet Link; ComponentLink2URL: https://www.we-online.com/redexpert/spec/744917091?ad; Mount: Surface Mount; Min Operating Temperature: -40°C; Max Operating Temperature: 125°C; Packaging: Tape and Reel; Length: 1.6mm; Width: 1mm; Height: 0.8mm; DC Resistance Max: 0.058Ω; Inductance: 9.1nH; Rated Current: 1.4A
footprint WE-KI HC_0603
simulation model 0603_744917091_9.1n
pins: 1, 2